# EAGLE library part FE06-1 (library we-con)
Female Header
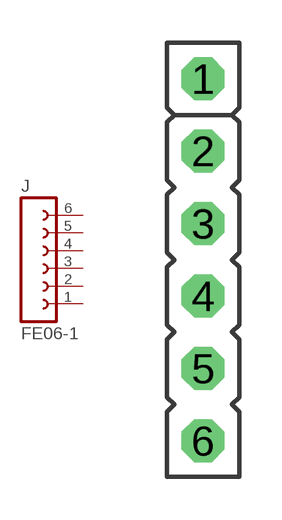
[diagram p22: symbol with the pads of FE06-1; footprint FE06-1]

Designator prefix J

## FE06-1  [FE06-1]
1  1  pas
2  2  pas
3  3  pas
4  4  pas
5  5  pas
6  6  pas

## Footprint FE06-1 (pad centres in mm)
FEMALE HEADER
drill 1 octagon: 1 0,6.35; 2 0,3.81; 3 0,1.27; 4 0,-1.27; 5 0,-3.81; 6 0,-6.35